# EAGLE library part 6871XX14022_68712814022 (library 68611414422)
WR-FPC 0.50 mm SMT ZIF Horizontal Top Contact KIND PROPERTIES Pitch 0.5 mm MATERIAL PROPERTIES Insulator Material LCP Contact Material Phosphor Bronze Contact Plating 100 (µ") Tin over 50 (µ") Nickel Contact Type Stamped Solder Tabs Brass <https://www.we-online.com/catalog/media/o32866v209%20Family_WE-FPC_6871xx14022.jpg> Details see: https://www.we-online.com/catalog/en/FPC_0_5_SMT_ZIF_HORIZONTAL_TOP_CONTACT_6871XX14022/ Updated by Ella Wu 2020-08-26 2020(C) Wurth Elektronik
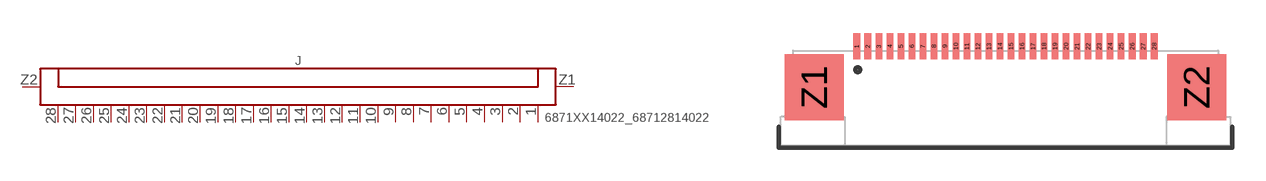
[diagram p3: symbol with the pads of 68712814022; footprint 68712814022]

Designator prefix J

## 6871XX14022_68712814022 (CONTACT-RESISTANCE: 20mOhm; DATASHEET-URL: https://www.we-online.com/catalog/datasheet/68712814022.pdf; IR: 0.5A; L: 20.4mm; PACKAGING: Tape and Reel; PART-NUMBER: 68712814022; PINS: 28; PITCH: 0.5mm; TYPE: Horizontal; VALUE: 68712814022; WORKING-VOLTAGE: 50V(AC))  [68712814022]
1  1  pas
2  2  pas
3  3  pas
4  4  pas
5  5  pas
6  6  pas
7  7  pas
8  8  pas
9  9  pas
10  10  pas
11  11  pas
12  12  pas
13  13  pas
14  14  pas
15  15  pas
16  16  pas
17  17  pas
18  18  pas
19  19  pas
20  20  pas
21  21  pas
22  22  pas
23  23  pas
24  24  pas
25  25  pas
26  26  pas
27  27  pas
28  28  pas
Z1  Z1  pas
Z2  Z2  pas

## Footprint 68712814022 (pad centres in mm)
WR-FPC 0.50 mm SMT ZIF Horizontal Top Contact ,28 Pins
smd 0.3 x 1.2: 1 -6.75,2.35; 2 -6.25,2.35; 3 -5.75,2.35; 4 -5.25,2.35; 5 -4.75,2.35; 6 -4.25,2.35; 7 -3.75,2.35; 8 -3.25,2.35; 9 -2.75,2.35; 10 -2.25,2.35; 11 -1.75,2.35; 12 -1.25,2.35; 13 -0.75,2.35; 14 -0.25,2.35; 15 0.25,2.35; 16 0.75,2.35; 17 1.25,2.35; 18 1.75,2.35; 19 2.25,2.35; 20 2.75,2.35; 21 3.25,2.35; 22 3.75,2.35; 23 4.25,2.35; 24 4.75,2.35; 25 5.25,2.35; 26 5.75,2.35; 27 6.25,2.35; 28 6.75,2.35
smd 2.7 x 3: Z1 -8.68,0.49; Z2 8.68,0.49